# Altium footprint library PcbLib_DW.PcbLib: 53 footprints (part 1 of 4)
Each footprint in its own frame and in the unit in brackets; x right, y up, seen from the top. Pads: shape width x height; smd on the part's side, far side on the other; paste and mask are expansions set on the pad; w line width, h text height; cw(c..) or ccw(c..) is an arc to the next point about the centre after c.
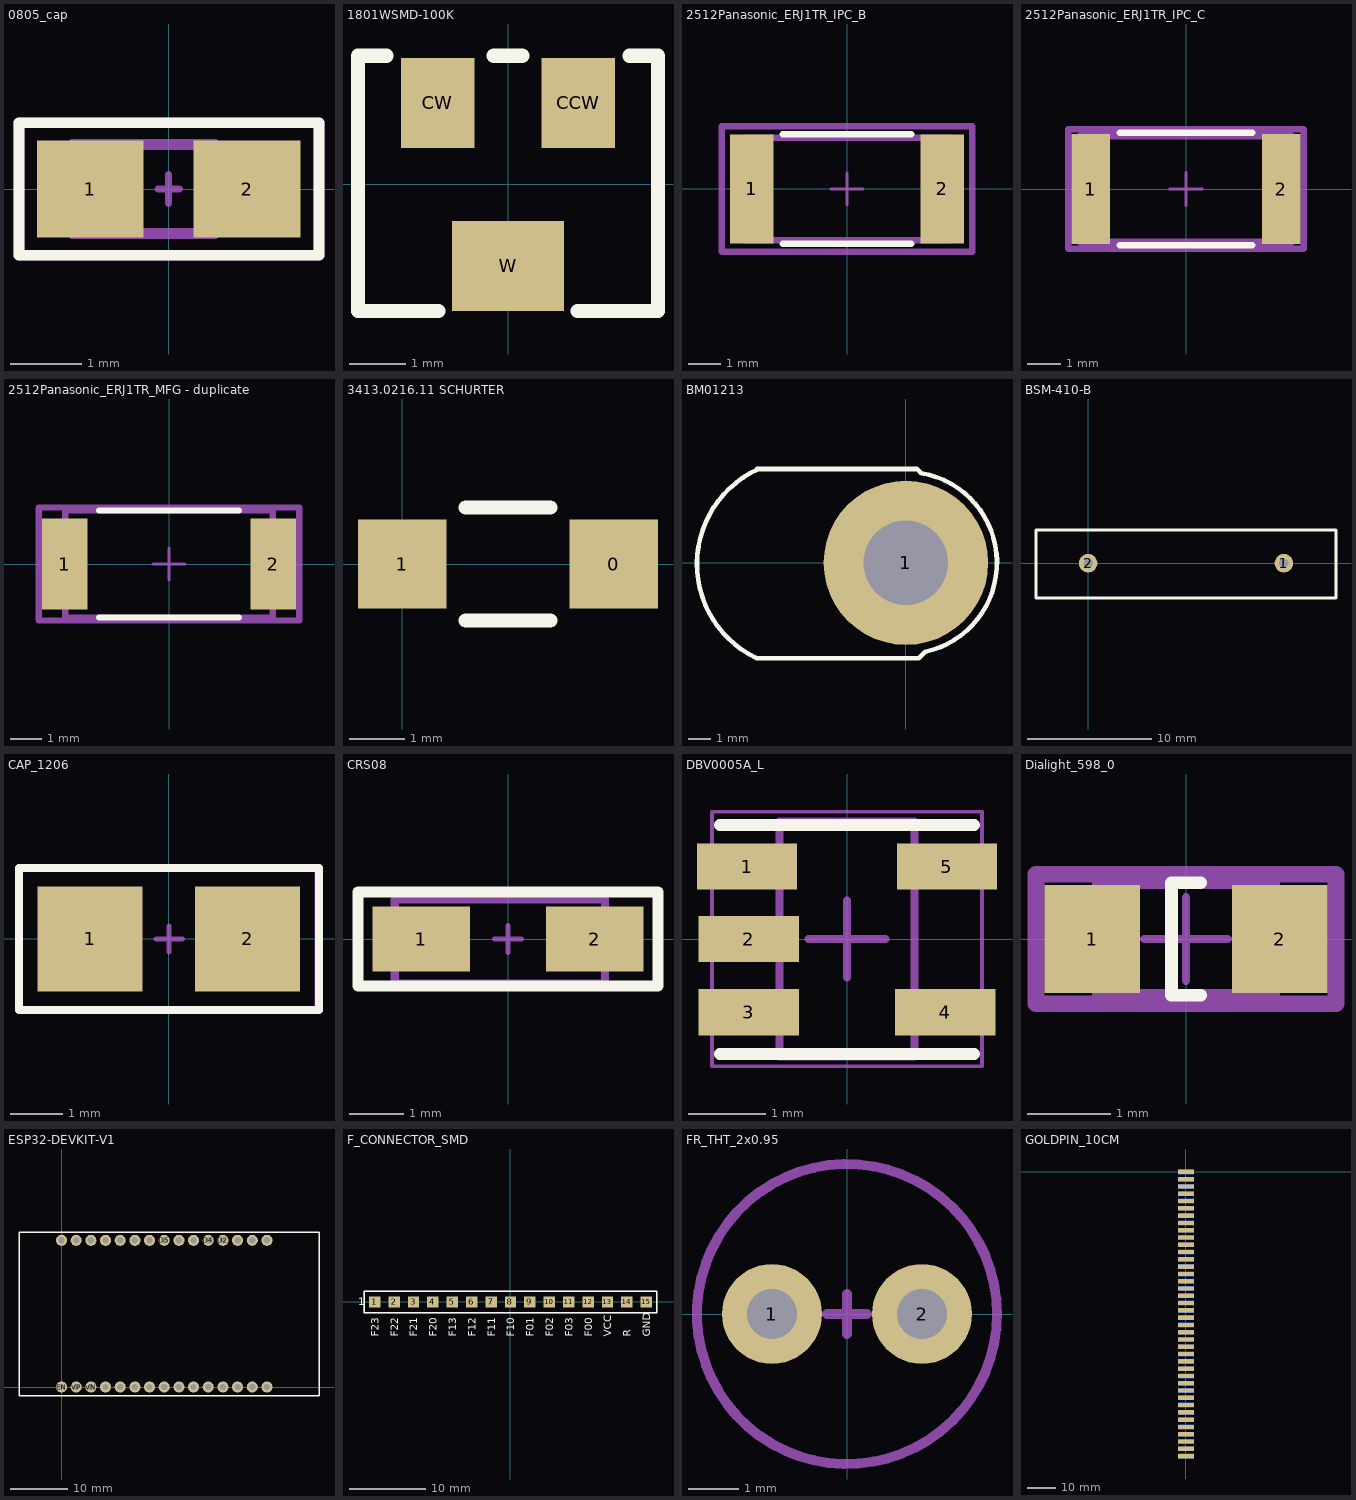
[diagram p0: the footprints below, top view; thin cyan lines are the x and y axes]

## 0805_cap [mm]
pads (2):
  rect 1.5x1.356 smd paste+0 mask+0.1: 1(-1.1,0) 2(1.1,0)
Top Overlay:
  lines w0.153: -2.1,-0.93 -2.1,0.93 2.11,0.93 2.11,-0.93 -2.1,-0.93
Mechanical 12:
  lines w0.15: -1.349,-0.625 0.651,-0.625 0.651,0.625 -1.349,0.625 -1.349,-0.625
Mechanical 13:
  lines w0.153: -2.1,-0.93 2.11,-0.93 2.11,0.93 -2.1,0.93 -2.1,-0.93
Mechanical 15:
  lines w0.1: -0.15,0 0.15,0 ; 0,-0.2 0,0.2
  lines w0.153: -2.1,-0.93 2.11,-0.93 2.11,0.93 -2.1,0.93 -2.1,-0.93
3D body "Cap_AVX_08051A180JAT2A_eec.STEP": height 0.25, standoff 0, extent -1.343,-0.815 1.363,0.835

## 1801WSMD-100K [mm] "Square Trimming Potentiometer"
pads (3):
  rrect0% 1.3x1.6 smd: CCW(1.25,1.45) CW(-1.25,1.45)
  rrect0% 2x1.6 smd: W(0,-1.45)
Top Overlay:
  lines w0.254: -2.667,2.25 -2.667,-2.25 -1.234,-2.25 ; -2.667,2.286 -2.159,2.286 ; -0.254,2.286 0.254,2.286 ; 1.234,-2.25 2.667,-2.25 2.667,2.25 ; 2.159,2.286 2.667,2.286

## 2512Panasonic_ERJ1TR_IPC_B [mm]
pads (2):
  rect 1.355x3.406 smd paste+0 mask+0: 1(-2.976,0) 2(2.976,0)
Top Overlay:
  lines w0.2: -1.998,-1.703 1.998,-1.703 ; -1.998,1.703 1.998,1.703
Mechanical 10:
  lines w0.2: -3.903,-1.953 3.903,-1.953 3.903,1.953 -3.903,1.953 -3.903,-1.953
  text ".Designator" at 0,0 h1
Mechanical 12:
  lines w0.2: -3.2,-1.6 3.2,-1.6 3.2,1.6 -3.2,1.6 -3.2,-1.6
Mechanical 15:
  lines w0.1: -0.5,0 0.5,0 ; 0,-0.5 0,0.5
  lines w0.2: -3.903,-1.953 3.903,-1.953 3.903,1.953 -3.903,1.953 -3.903,-1.953
3D body "Res_Panasonic_ERJ-1TRQFR22U_eec.STEP": height 0.25, standoff 0, extent -3.903,-1.953 3.903,1.953

## 2512Panasonic_ERJ1TR_IPC_C [mm]
pads (2):
  rect 1.155x3.306 smd paste+0 mask+0: 1(-2.876,0) 2(2.876,0)
Top Overlay:
  lines w0.2: -1.998,-1.7 1.998,-1.7 ; -1.998,1.7 1.998,1.7
Mechanical 10:
  lines w0.2: -3.553,-1.8 3.553,-1.8 3.553,1.8 -3.553,1.8 -3.553,-1.8
  text ".Designator" at 0,0 h1
Mechanical 12:
  lines w0.2: -3.2,-1.6 3.2,-1.6 3.2,1.6 -3.2,1.6 -3.2,-1.6
Mechanical 15:
  lines w0.1: -0.5,0 0.5,0 ; 0,-0.5 0,0.5
  lines w0.2: -3.553,-1.8 3.553,-1.8 3.553,1.8 -3.553,1.8 -3.553,-1.8
3D body "Res_Panasonic_ERJ-1TRQFR22U_eec.STEP": height 0.25, standoff 0, extent -3.553,-1.8 3.553,1.8

## 2512Panasonic_ERJ1TR_MFG - duplicate [mm]
pads (2):
  rect 1.45x2.9 smd paste+0 mask+0: 1(-3.325,0) 2(3.325,0)
Top Overlay:
  lines w0.2: -2.225,-1.7 2.225,-1.7 ; -2.225,1.7 2.225,1.7
Mechanical 10:
  lines w0.2: -4.15,-1.8 -4.15,1.8 4.15,1.8 4.15,-1.8 -4.15,-1.8
  text ".Designator" at 0,0 h1
Mechanical 12:
  lines w0.2: -3.3,-1.7 -3.3,1.7 3.3,1.7 3.3,-1.7 -3.3,-1.7
Mechanical 15:
  lines w0.1: -0.5,0 0.5,0 ; 0,-0.5 0,0.5
  lines w0.2: -4.15,-1.8 -4.15,1.8 4.15,1.8 4.15,-1.8 -4.15,-1.8
3D body "Res_Panasonic_ERJ-1TRQFR22U_eec.STEP": height 0.25, standoff 0, extent -4.15,-1.8 4.15,1.8

## 3413.0216.11 SCHURTER [mm]
pads (2):
  rect 1.6x1.6 smd: 0(3.81,0) 1(0,0)
Top Overlay:
  lines w0.254: 1.143,-1.016 2.667,-1.016 ; 1.143,1.016 2.667,1.016

## BM01213 [mm] "SupplyPoint"
pads (1):
  round 7.2 hole 3.7 mask+0.2: 1(0,0)
Top Overlay:
  lines w0.2: -6.53,4.11 0.5,4.11 0.678,3.932 cw(c0,0) 0.845,-3.9 0.565,-4.18 0.39,-4.18 -6.556,-4.167 cw(c-4.588,-0.051) -6.49,4.096
Mechanical 15:
  lines w0.2: -0.54,0 0.56,0 ; 0,-0.54 0,0.56
3D body "V4.stp": height 5.95, standoff 0.05, extent -9.041,-4.33 3.344,4.3

## BSM-410-B [mm]
pads (2):
  round 1.5 hole 0.762: 1(15.748,0) 2(0,0)
Top Overlay:
  lines w0.254: -4.191,-2.794 -4.191,2.667 0,2.667 19.939,2.667 19.939,-2.794 12.954,-2.794 -4.191,-2.794

## CAP_1206 [mm]
pads (2):
  rect 2x2 smd: 1(-1.5,0)
  rect 2x2 smd mask+0.102: 2(1.5,0)
Top Overlay:
  lines w0.153: -2.856,-1.357 -2.856,1.354 2.856,1.354 2.856,-1.357 -2.856,-1.357
Mechanical 10:
  lines w0.153: -2.857,-1.358 -2.857,1.354 2.861,1.354 2.861,-1.358 -2.857,-1.358
Mechanical 15:
  lines w0.1: -0.246,0 0.253,0 ; 0,-0.249 0,0.248
  lines w0.153: -2.856,-1.355 -2.856,1.351 2.852,1.351 2.852,-1.355 -2.856,-1.355
3D body "CC1206N_YAG.step": height 0.71, standoff 0, extent -1.66,-0.79 1.54,0.81

## CRS08 [mm]
pads (2):
  rect 1.8x1.2 smd: 1(-1.6,0) 2(1.6,0)
Top Overlay:
  lines w0.2: -2.77,-0.87 2.77,-0.87 2.77,0.87 -2.77,0.87 -2.77,-0.87
Mechanical 13:
  lines w0.153: -2.09,-0.82 -2.09,0.73 1.79,0.73 1.79,-0.82 -2.09,-0.82
Mechanical 15:
  lines w0.1: -0.25,0 0.25,0 ; 0,-0.25 0,0.25
  lines w0.153: -2.09,-0.82 -2.09,0.73 1.79,0.73 1.79,-0.82 -2.09,-0.82
3D body: height 1, standoff 0, extent -1.321,-0.787 1.321,0.787

## DBV0005A_L [mm] "SOT23, 5-Leads, Body 3.05x1.75mm, Pitch 0.95mm, IPC High Density"
height 1.45
pads (5):
  rect 1.3x0.6 smd mask+0.08: 1(-1.295,0.94) 2(-1.275,0) 4(1.275,-0.95) 5(1.295,0.94)
  rect 1.3x0.6 smd paste+0 mask+0.08: 3(-1.275,-0.95)
Top Overlay:
  lines w0.153: -1.65,-1.49 -0.25,-1.49 0.258,-1.49 1.65,-1.49 ; -1.65,1.48 -0.2,1.48 0.308,1.48 1.65,1.48
Mechanical 13:
  lines w0.1: -0.875,-1.525 0.875,-1.525 0.875,1.525 -0.875,1.525 -0.875,-1.525
Mechanical 15:
  lines w0.05: -1.75,-1.65 1.75,-1.65 1.75,1.65 -1.75,1.65 -1.75,-1.65
  lines w0.1: -0.5,0 0.5,0 ; 0,-0.5 0,0.5
3D body "DBV0005AaksMF05A.stp": height 1.08, standoff -0.01, extent -1.422,-1.461 1.422,1.46

## Dialight_598_0 [mm]
pads (2):
  rect 1.15x1.3 smd paste+0 mask+0: 1(-1.125,0) 2(1.125,0)
Top Overlay:
  lines w0.153: 0.175,-0.675 -0.175,-0.675 -0.175,0.675 0.175,0.675
Mechanical 10:
  lines w0.2: -1.8,-0.775 1.8,-0.775 1.8,0.775 -1.8,0.775 -1.8,-0.775
Mechanical 12:
  lines w0.15: -1.05,-0.675 1.05,-0.675 1.05,0.675 -1.05,0.675 -1.05,-0.675
Mechanical 15:
  lines w0.1: -0.5,0 0.5,0 ; 0,-0.5 0,0.5
  lines w0.2: -1.8,-0.775 1.8,-0.775 1.8,0.775 -1.8,0.775 -1.8,-0.775
3D body "Diode_Dialight_598-8110-107F_eec.STEP": height 0.25, standoff 0, extent -1.8,-0.775 1.8,0.775

## ESP32-DEVKIT-V1 [mm]
pads (30):
  round 1.92 hole 1.1: 3v3(35.56,25.4) D2(27.94,25.4) D4(25.4,25.4) D5(17.78,25.4) D12(27.94,0) D13(30.48,0) D14(25.4,0) D15(30.48,25.4) D18(15.24,25.4) D19(12.7,25.4) D21(10.16,25.4) D22(2.54,25.4) D23(0,25.4) D25(17.78,0) D26(20.32,0) D27(22.86,0) D32(12.7,0) D33(15.24,0) D34(7.62,0) D35(10.16,0) EN(0,0) GND(33.02,25.4) GND_2(33.02,0) RX0(7.62,25.4) RX2(22.86,25.4) TX0(5.08,25.4) TX2(20.32,25.4) VIN(35.56,0) VN(5.08,0) VP(2.54,0)
Top Overlay:
  lines w0.254: -7.366,26.797 -7.366,-1.524 44.577,-1.524 44.577,26.806 -7.366,26.806

## F_CONNECTOR_SMD [mm]
pads (15):
  rect 1.5x1.5 smd: 1(-17.78,0) 2(-15.24,0) 3(-12.7,0) 4(-10.16,0) 5(-7.62,0) 6(-5.08,0) 7(-2.54,0) 8(0,0) 9(2.54,0) 10(5.08,0) 11(7.62,0) 12(10.16,0) 13(12.7,0) 14(15.24,0) 15(17.78,0)
Top Overlay:
  lines w0.2: -19.18,-1.4 19.18,-1.4 19.18,1.4 6.02,1.4 -19.18,1.4 -19.18,-1.4
  text "GND" at 18.298,-4.546 h1.02
  text "VCC" at 13.218,-4.548 h1.02
  text "F00" at 10.678,-4.548 h1.02
  text "F03" at 8.138,-4.548 h1.02
  text "F02" at 5.598,-4.548 h1.02
  text "F01" at 3.058,-4.548 h1.02
  text "F10" at 0.518,-4.548 h1.02
  text "F11" at -2.022,-4.548 h1.02
  text "F12" at -4.562,-4.548 h1.02
  text "F13" at -7.102,-4.548 h1.02
  text "F20" at -9.642,-4.548 h1.02
  text "F21" at -12.182,-4.548 h1.02
  text "F22" at -14.722,-4.548 h1.02
  text "F23" at -17.262,-4.548 h1.02
  text "1" at -19.968,-0.448 h1.02
  text "R" at 15.758,-4.548 h1.02
Mechanical 13:
  lines w0.2: -19.181,-1.402 19.18,-1.402 19.18,1.398 6.019,1.398 -19.181,1.398 -19.181,-1.402
Mechanical 15:
  lines w0.2: -0.5,0 0,0 ; 0,-0.5 0,0 ; 0,0.5 0,0 ; 0.5,0 0,0 ; -19.182,-1.405 -19.182,1.395 6.018,1.395 19.18,1.395 19.18,-1.405 -19.182,-1.405

## FR_THT_2x0.95 [mm]
pads (2):
  round 2 hole 1: 1(-1.5,0) 2(1.5,0)
Mechanical 10:
  circle w0.2: c0,0 r3
Mechanical 15:
  lines w0.2: -0.4,0 0.4,0 ; 0,-0.4 0,0.4
3D body "FR3.stp": height 8.2, standoff 0.2, extent -2.9,-2.9 3.1,3.1

## GOLDPIN_10CM [mm]
pads (80):
  rect 5.5x1.5 smd: 1(0,0) 2(0,-2.54) 3(0,-5.08) 4(0,-7.62) 5(0,-10.16) 6(0,-12.7) 7(0,-15.24) 8(0,-17.78) 9(0,-20.32) 10(0,-22.86) 11(0,-25.4) 12(0,-27.94) 13(0,-30.48) 14(0,-33.02) 15(0,-35.56) 16(0,-38.1) 17(0,-40.64) 18(0,-43.18) 19(0,-45.72) 20(0,-48.26) 21(0,-50.8) 22(0,-53.34) 23(0,-55.88) 24(0,-58.42) 25(0,-60.96) 26(0,-63.5) 27(0,-66.04) 28(0,-68.58) 29(0,-71.12) 30(0,-73.66) 31(0,-76.2) 32(0,-78.74) 33(0,-81.28) 34(0,-83.82) 35(0,-86.36) 36(0,-88.9) 37(0,-91.44) 38(0,-93.98) 39(0,-96.52) 40(0,-99.06)
  rect 5.5x1.5 smd far side: 1(0,0) 2(0,-2.54) 3(0,-5.08) 4(0,-7.62) 5(0,-10.16) 6(0,-12.7) 7(0,-15.24) 8(0,-17.78) 9(0,-20.32) 10(0,-22.86) 11(0,-25.4) 12(0,-27.94) 13(0,-30.48) 14(0,-33.02) 15(0,-35.56) 16(0,-38.1) 17(0,-40.64) 18(0,-43.18) 19(0,-45.72) 20(0,-48.26) 21(0,-50.8) 22(0,-53.34) 23(0,-55.88) 24(0,-58.42) 25(0,-60.96) 26(0,-63.5) 27(0,-66.04) 28(0,-68.58) 29(0,-71.12) 30(0,-73.66) 31(0,-76.2) 32(0,-78.74) 33(0,-81.28) 34(0,-83.82) 35(0,-86.36) 36(0,-88.9) 37(0,-91.44) 38(0,-93.98) 39(0,-96.52) 40(0,-99.06)